# EAGLE library part XSYS (library sjg-con)
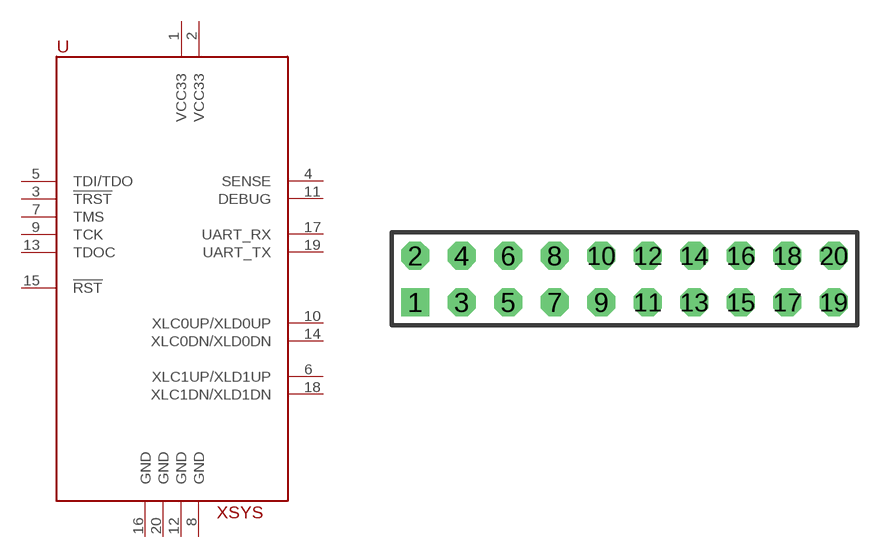
[diagram p4: symbol with the pads of 2X10; footprint 2X10]

Designator prefix -

## XSYS  [2X10]
1  VCC33
2  VCC33
3  !TRST!
4  SENSE
5  TDI/TDO
6  XLC1UP/XLD1UP
7  TMS
8  GND
9  TCK
10  XLC0UP/XLD0UP
11  DEBUG
12  GND
13  TDOC
14  XLC0DN/XLD0DN
15  !RST!
16  GND
17  UART_RX
18  XLC1DN/XLD1DN
19  UART_TX
20  GND

## Footprint 2X10 (pad centres in mm)
PIN HEADER - 0.1"
drill 1.016 square: 1 -11.43,-1.27
drill 1.016 octagon: 2 -11.43,1.27; 3 -8.89,-1.27; 4 -8.89,1.27; 5 -6.35,-1.27; 6 -6.35,1.27; 7 -3.81,-1.27; 8 -3.81,1.27; 9 -1.27,-1.27; 10 -1.27,1.27; 11 1.27,-1.27; 12 1.27,1.27; 13 3.81,-1.27; 14 3.81,1.27; 15 6.35,-1.27; 16 6.35,1.27; 17 8.89,-1.27; 18 8.89,1.27; 19 11.43,-1.27; 20 11.43,1.27